# Altium schematic symbol library Sound Buzzer.SchLib: 2 symbols
Pins are listed as number, name and electrical type; pins without a type are passive.

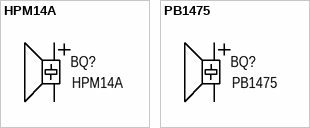
[diagram p0: symbols HPM14A to PB1475]

## HPM14A
designator BQ?
Buzzer d14x7.5 TH; Component: Sound Buzzer; Group: Mechanical; Voltage supply: 1V - 20V; Frequency: 4kHz; Current supply: 3mA; Mode: Single tone; Package: D14x7.5; Part name: HPM14A; Operating temperature: -20°C +85°C; Mounting type: Through hole; Dimension: 14.00mm x 14.00mm; Height: 7.70mm; Technology: Piezo
footprint BUZ-D14x7.5N (Buzzer, Body d14x7.5mm)
pins: 1 +, 2 -

## PB1475
designator BQ?
Buzzer d14x7.5 TH; Manufacturer: SWT; Component: Sound Buzzer; Group: Mechanical; Voltage supply: 1V - 30V; Frequency: 4kHz; Current supply: 2mA; Mode: Single tone; Package: D14x7.5; Part name: PB1475; Operating temperature: -20°C +70°C; Mounting type: Through hole; Dimension: 14.00mm x 14.00mm; Height: 7.70mm; Technology: Piezo
footprint BUZ-D14x7.5N (Buzzer, Body d14x7.5mm)
pins: 1 +, 2 -